# EAGLE library part B6B-EH-A (library con-jst-eh)
HEADER
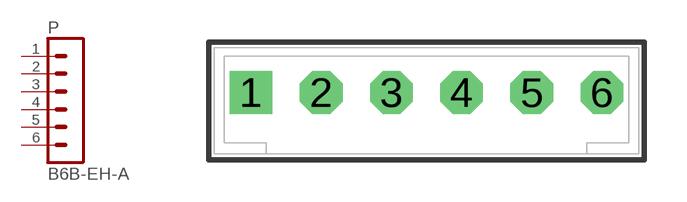
[diagram p0: symbol with the pads of B6B-EH-A; footprint B6B-EH-A]

Designator prefix P

## B6B-EH-A  [B6B-EH-A]
1  1  pas
2  2  pas
3  3  pas
4  4  pas
5  5  pas
6  6  pas

## Footprint B6B-EH-A (pad centres in mm)
HEADER
drill 1.016 square: 1 -6.25,0
drill 1.016 octagon: 2 -3.75,0; 3 -1.25,0; 4 1.25,0; 5 3.75,0; 6 6.25,0